# Altium schematic symbol library Indutor.SchLib: 3 symbols
Pins are listed as number, name and electrical type; pins without a type are passive.

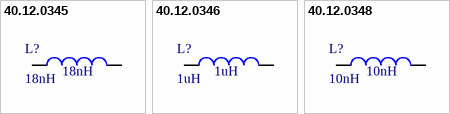
[diagram p0: symbols 40.12.0345 to 40.12.0348]

## 40.12.0345
designator L?, comment 18nH
INDUTOR FIXO 18nH 370mA 270mOHM SMD 0402; Category: Fixed Inductors; Current Rating (Amps): 370mA; DC Resistance (DCR): 270mOHM; Library Ref: Inductor; Package / Case: 0402 (1005 mm); Price: 1=; 10=; 50= (USD); Q @ Freq: -; Size / Dimension: L x W x H; ToleranceParameter 21: -; ComponentLink1Description: Datasheet; ComponentLink2Description: Mouser link; Value: 18nH
footprint L0402
pins: 1, 2

## 40.12.0346
designator L?, comment 1uH
INDUTOR FIXO 1uH 20% 5A 36mOHM SMD 1008; Category: Fixed Inductors; Current Rating (Amps): 5A; DC Resistance (DCR): 36mOHM; Library Ref: Inductor; Package / Case: 1008 (2520 mm); Price: 1=; 10=; 50= (USD); Q @ Freq: -; Size / Dimension: L x W x H; ToleranceParameter 21: 20%; ComponentLink1Description: Datasheet; ComponentLink2Description: Mouser link; Value: 1uH
footprint L1008
pins: 1, 2

## 40.12.0348
designator L?, comment 10nH
INDUTOR FIXO 10nH 3% 500mA 260mOHM SMD 0402; Category: Fixed Inductors; Current Rating (Amps): 500mA; DC Resistance (DCR): 260mOHM; Library Ref: Inductor; Package / Case: 0402 (1005 mm); Price: 1=; 10=; 50= (USD); Q @ Freq: -; Size / Dimension: L x W x H; ToleranceParameter 21: 3%; ComponentLink1Description: Datasheet; ComponentLink2Description: Mouser link; Value: 10nH
footprint L0402
pins: 1, 2